# Altium schematic symbol library Panasonic.SchLib: 1 symbol
Pins are listed as number, name and electrical type; pins without a type are passive.

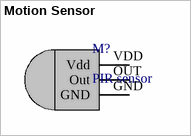
[diagram p0: symbol Motion Sensor]

## Motion Sensor
designator M?, comment PIR sensor
Motion Sensor; Value: *; Catalog: *; Catalog number: *
footprint AMN41122
pins: GND, OUT Out, VDD Vdd